# Altium integrated library Capacitor - Aluminium TH.IntLib: 4591 symbols (part 49 of 68)
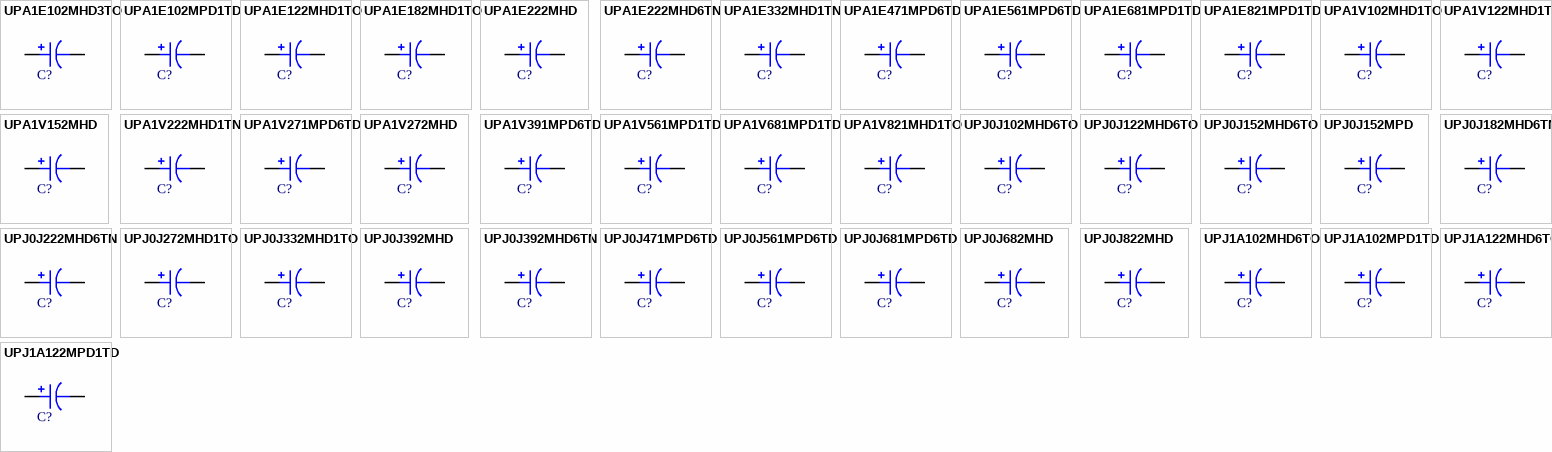
[diagram p162: symbols UPA1E102MHD3TO to UPJ1A122MPD1TD]

## UPJ0J152MHD6TO
designator C?, comment 1500uF  (value not drawn)
CAP ALUM 1500UF 20% 6.3V RADIAL; Part Number: UPJ0J152MHD6TO; Manufacturer: Nichicon; TemperatureRange: -55C ~ 105C; Type: Polar; Ripple Current: 915mA @ 120Hz; Impedance: 100 mOhm; Value: 1500uF; PartId: 22750; Supplier 1: Digi-Key; Supplier Part Number 1: 493-4973-1-ND; ComponentLink1Description: Datasheet; ComponentLink1URL: http://nichicon-us.com/english/products/pdfs/e-upj.pdf; ComponentLink2Description: Digi-Key Listing; ComponentLink2URL: https://www.digikey.com/product-detail/en/nichicon/UPJ0J152MHD6TO/493-4973-1-ND/3129310; Tolerance: 20%; Voltage: 6.3V; Price: 0; Device Package: Radial, Can, 12.5mm
footprint CAP AL TH D12.5 L5 H16.5
pins: 1, 2

## UPJ0J152MPD
designator C?, comment 1500uF  (value not drawn)
CAP ALUM 1500UF 20% 6.3V RADIAL; Part Number: UPJ0J152MPD; Manufacturer: Nichicon; TemperatureRange: -55C ~ 105C; Type: Polar; Ripple Current: 1.09A @ 120Hz; Impedance: 84 mOhm; Value: 1500uF; PartId: 26059; Supplier 1: Digi-Key; Supplier Part Number 1: 493-14368-ND; ComponentLink1Description: Datasheet; ComponentLink1URL: http://nichicon-us.com/english/products/pdfs/e-upj.pdf; ComponentLink2Description: Digi-Key Listing; ComponentLink2URL: https://www.digikey.com/product-detail/en/nichicon/UPJ0J152MPD/493-14368-ND/2599000; Tolerance: 20%; Voltage: 6.3V; Price: 0.67; Device Package: Radial, Can, 10mm
footprint CAP AL TH D10 L5 H30
pins: 1, 2

## UPJ0J182MHD6TN
designator C?, comment 1800uF  (value not drawn)
CAP ALUM 1800UF 20% 6.3V RADIAL; Part Number: UPJ0J182MHD6TN; Manufacturer: Nichicon; TemperatureRange: -55C ~ 105C; Type: Polar; Ripple Current: 1.14A @ 120Hz; Impedance: 84 mOhm; Value: 1800uF; PartId: 26230; Supplier 1: Digi-Key; Supplier Part Number 1: 493-4974-3-ND; ComponentLink1Description: Datasheet; ComponentLink1URL: http://nichicon-us.com/english/products/pdfs/e-upj.pdf; ComponentLink2Description: Digi-Key Listing; ComponentLink2URL: https://www.digikey.com/product-detail/en/nichicon/UPJ0J182MHD6TN/493-4974-3-ND/3129979; Tolerance: 20%; Voltage: 6.3V; Price: 0.3876; Device Package: Radial, Can, 16mm
footprint CAP AL TH D16 L7.5 H16.5
pins: 1, 2

## UPJ0J222MHD6TN
designator C?, comment 2200uF  (value not drawn)
CAP ALUM 2200UF 20% 6.3V RADIAL; Part Number: UPJ0J222MHD6TN; Manufacturer: Nichicon; TemperatureRange: -55C ~ 105C; Type: Polar; Ripple Current: 1.2A @ 120Hz; Impedance: 78 mOhm; Value: 2200uF; PartId: 26234; Supplier 1: Digi-Key; Supplier Part Number 1: 493-4975-3-ND; ComponentLink1Description: Datasheet; ComponentLink1URL: http://nichicon-us.com/english/products/pdfs/e-upj.pdf; ComponentLink2Description: Digi-Key Listing; ComponentLink2URL: https://www.digikey.com/product-detail/en/nichicon/UPJ0J222MHD6TN/493-4975-3-ND/3129980; Tolerance: 20%; Voltage: 6.3V; Price: 0.4095; Device Package: Radial, Can, 16mm
footprint CAP AL TH D16 L7.5 H16.5
pins: 1, 2

## UPJ0J272MHD1TO
designator C?, comment 2700uF  (value not drawn)
CAP ALUM 2700UF 20% 6.3V RADIAL; Part Number: UPJ0J272MHD1TO; Manufacturer: Nichicon; TemperatureRange: -55C ~ 105C; Type: Polar; Ripple Current: 1.43A @ 120Hz; Impedance: 51 mOhm; Value: 2700uF; PartId: 23623; Supplier 1: Digi-Key; Supplier Part Number 1: 493-4976-3-ND; ComponentLink1Description: Datasheet; ComponentLink1URL: http://nichicon-us.com/english/products/pdfs/e-upj.pdf; ComponentLink2Description: Digi-Key Listing; ComponentLink2URL: https://www.digikey.com/product-detail/en/nichicon/UPJ0J272MHD1TO/493-4976-3-ND/3129981; Tolerance: 20%; Voltage: 6.3V; Price: 0.3389; Device Package: Radial, Can, 12.5mm
footprint CAP AL TH D12.5 L5 H26.5
pins: 1, 2

## UPJ0J332MHD1TO
designator C?, comment 3300uF  (value not drawn)
CAP ALUM 3300UF 20% 6.3V RADIAL; Part Number: UPJ0J332MHD1TO; Manufacturer: Nichicon; TemperatureRange: -55C ~ 105C; Type: Polar; Ripple Current: 1.53A @ 120Hz; Impedance: 45 mOhm; Value: 3300uF; PartId: 23942; Supplier 1: Digi-Key; Supplier Part Number 1: 493-12101-1-ND; ComponentLink1Description: Datasheet; ComponentLink1URL: http://nichicon-us.com/english/products/pdfs/e-upj.pdf; ComponentLink2Description: Digi-Key Listing; ComponentLink2URL: https://www.digikey.com/product-detail/en/nichicon/UPJ0J332MHD1TO/493-12101-1-ND/4319400; Tolerance: 20%; Voltage: 6.3V; Price: 0.97; Device Package: Radial, Can, 12.5mm
footprint CAP AL TH D12.5 L5 H27
pins: 1, 2

## UPJ0J392MHD
designator C?, comment 3900uF  (value not drawn)
CAP ALUM 3900UF 20% 6.3V RADIAL; Part Number: UPJ0J392MHD; Manufacturer: Nichicon; TemperatureRange: -55C ~ 105C; Type: Polar; Ripple Current: 1.71A @ 120Hz; Impedance: 37 mOhm; Value: 3900uF; PartId: 24202; Supplier 1: Digi-Key; Supplier Part Number 1: 493-5514-ND; ComponentLink1Description: Datasheet; ComponentLink1URL: http://nichicon-us.com/english/products/pdfs/e-upj.pdf; ComponentLink2Description: Digi-Key Listing; ComponentLink2URL: https://www.digikey.com/product-detail/en/nichicon/UPJ0J392MHD/493-5514-ND/2599015; Tolerance: 20%; Voltage: 6.3V; Price: 0.89; Device Package: Radial, Can, 12.5mm
footprint CAP AL TH D12.5 L5 H35.5
pins: 1, 2

## UPJ0J392MHD6TN
designator C?, comment 3900uF  (value not drawn)
CAP ALUM 3900UF 20% 6.3V RADIAL; Part Number: UPJ0J392MHD6TN; Manufacturer: Nichicon; TemperatureRange: -55C ~ 105C; Type: Polar; Ripple Current: 1.54A @ 120Hz; Impedance: 56 mOhm; Value: 3900uF; PartId: 26357; Supplier 1: Digi-Key; Supplier Part Number 1: 493-4979-3-ND; ComponentLink1Description: Datasheet; ComponentLink1URL: http://nichicon-us.com/english/products/pdfs/e-upj.pdf; ComponentLink2Description: Digi-Key Listing; ComponentLink2URL: https://www.digikey.com/product-detail/en/nichicon/UPJ0J392MHD6TN/493-4979-3-ND/3129984; Tolerance: 20%; Voltage: 6.3V; Price: 0.5151; Device Package: Radial, Can, 16mm
footprint CAP AL TH D16 L7.5 H22
pins: 1, 2

## UPJ0J471MPD6TD
designator C?, comment 470uF  (value not drawn)
CAP ALUM 470UF 20% 6.3V RADIAL; Part Number: UPJ0J471MPD6TD; Manufacturer: Nichicon; TemperatureRange: -55C ~ 105C; Type: Polar; Ripple Current: 455mA @ 120Hz; Impedance: 230 mOhm; Value: 470uF; PartId: 24503; Supplier 1: Digi-Key; Supplier Part Number 1: 493-4980-3-ND; ComponentLink1Description: Datasheet; ComponentLink1URL: http://nichicon-us.com/english/products/pdfs/e-upj.pdf; ComponentLink2Description: Digi-Key Listing; ComponentLink2URL: https://www.digikey.com/product-detail/en/nichicon/UPJ0J471MPD6TD/493-4980-3-ND/3129985; Tolerance: 20%; Voltage: 6.3V; Price: 0.1149; Device Package: Radial, Can, 10mm
footprint CAP AL TH D10 L5 H14.5
pins: 1, 2

## UPJ0J561MPD6TD
designator C?, comment 560uF  (value not drawn)
CAP ALUM 560UF 20% 6.3V RADIAL; Part Number: UPJ0J561MPD6TD; Manufacturer: Nichicon; TemperatureRange: -55C ~ 105C; Type: Polar; Ripple Current: 485mA @ 120Hz; Impedance: 210 mOhm; Value: 560uF; PartId: 24791; Supplier 1: Digi-Key; Supplier Part Number 1: 493-4983-1-ND; ComponentLink1Description: Datasheet; ComponentLink1URL: http://nichicon-us.com/english/products/pdfs/e-upj.pdf; ComponentLink2Description: Digi-Key Listing; ComponentLink2URL: https://www.digikey.com/product-detail/en/nichicon/UPJ0J561MPD6TD/493-4983-1-ND/3129320; Tolerance: 20%; Voltage: 6.3V; Price: 0.44; Device Package: Radial, Can, 10mm
footprint CAP AL TH D10 L5 H14.5
pins: 1, 2

## UPJ0J681MPD6TD
designator C?, comment 680uF  (value not drawn)
CAP ALUM 680UF 20% 6.3V RADIAL; Part Number: UPJ0J681MPD6TD; Manufacturer: Nichicon; TemperatureRange: -55C ~ 105C; Type: Polar; Ripple Current: 580mA @ 120Hz; Impedance: 180 mOhm; Value: 680uF; PartId: 24990; Supplier 1: Digi-Key; Supplier Part Number 1: 493-4986-3-ND; ComponentLink1Description: Datasheet; ComponentLink1URL: http://nichicon-us.com/english/products/pdfs/e-upj.pdf; ComponentLink2Description: Digi-Key Listing; ComponentLink2URL: https://www.digikey.com/product-detail/en/nichicon/UPJ0J681MPD6TD/493-4986-3-ND/3129991; Tolerance: 20%; Voltage: 6.3V; Price: 0.1251; Device Package: Radial, Can, 10mm
footprint CAP AL TH D10 L5 H17.5
pins: 1, 2

## UPJ0J682MHD
designator C?, comment 6800uF  (value not drawn)
CAP ALUM 6800UF 20% 6.3V RADIAL; Part Number: UPJ0J682MHD; Manufacturer: Nichicon; TemperatureRange: -55C ~ 105C; Type: Polar; Ripple Current: 2.13A @ 120Hz; Impedance: 29 mOhm; Value: 6800uF; PartId: 26986; Supplier 1: Digi-Key; Supplier Part Number 1: 493-5516-ND; ComponentLink1Description: Datasheet; ComponentLink1URL: http://nichicon-us.com/english/products/pdfs/e-upj.pdf; ComponentLink2Description: Digi-Key Listing; ComponentLink2URL: https://www.digikey.com/product-detail/en/nichicon/UPJ0J682MHD/493-5516-ND/2599027; Tolerance: 20%; Voltage: 6.3V; Price: 1.25; Device Package: Radial, Can, 16mm
footprint CAP AL TH D16 L7.5 H33.5
pins: 1, 2

## UPJ0J822MHD
designator C?, comment 8200uF  (value not drawn)
CAP ALUM 8200UF 20% 6.3V RADIAL; Part Number: UPJ0J822MHD; Manufacturer: Nichicon; TemperatureRange: -55C ~ 105C; Type: Polar; Ripple Current: 2.29A @ 120Hz; Impedance: 27 mOhm; Value: 8200uF; PartId: 27316; Supplier 1: Digi-Key; Supplier Part Number 1: 493-5517-ND; ComponentLink1Description: Datasheet; ComponentLink1URL: http://nichicon-us.com/english/products/pdfs/e-upj.pdf; ComponentLink2Description: Digi-Key Listing; ComponentLink2URL: https://www.digikey.com/product-detail/en/nichicon/UPJ0J822MHD/493-5517-ND/2599031; Tolerance: 20%; Voltage: 6.3V; Price: 1.47; Device Package: Radial, Can, 16mm
footprint CAP AL TH D16 L7.5 H37
pins: 1, 2

## UPJ1A102MHD6TO
designator C?, comment 1000uF  (value not drawn)
CAP ALUM 1000UF 20% 10V RADIAL; Part Number: UPJ1A102MHD6TO; Manufacturer: Nichicon; TemperatureRange: -55C ~ 105C; Type: Polar; Ripple Current: 895mA @ 120Hz; Impedance: 100 mOhm; Value: 1000uF; PartId: 22742; Supplier 1: Digi-Key; Supplier Part Number 1: 493-4988-1-ND; ComponentLink1Description: Datasheet; ComponentLink1URL: http://nichicon-us.com/english/products/pdfs/e-upj.pdf; ComponentLink2Description: Digi-Key Listing; ComponentLink2URL: https://www.digikey.com/product-detail/en/nichicon/UPJ1A102MHD6TO/493-4988-1-ND/3129325; Tolerance: 20%; Voltage: 10V; Price: 0; Device Package: Radial, Can, 12.5mm
footprint CAP AL TH D12.5 L5 H16.5
pins: 1, 2

## UPJ1A102MPD1TD
designator C?, comment 1000uF  (value not drawn)
CAP ALUM 1000UF 20% 10V RADIAL; Part Number: UPJ1A102MPD1TD; Manufacturer: Nichicon; TemperatureRange: -55C ~ 105C; Type: Polar; Ripple Current: 915mA @ 120Hz; Impedance: 96 mOhm; Value: 1000uF; PartId: 25731; Supplier 1: Digi-Key; Supplier Part Number 1: 493-11861-3-ND; ComponentLink1Description: Datasheet; ComponentLink1URL: http://nichicon-us.com/english/products/pdfs/e-upj.pdf; ComponentLink2Description: Digi-Key Listing; ComponentLink2URL: https://www.digikey.com/product-detail/en/nichicon/UPJ1A102MPD1TD/493-11861-3-ND/4321004; Tolerance: 20%; Voltage: 10V; Price: 0.1718; Device Package: Radial, Can, 10mm
footprint CAP AL TH D10 L5 H22
pins: 1, 2

## UPJ1A122MHD6TO
designator C?, comment 1200uF  (value not drawn)
CAP ALUM 1200UF 20% 10V RADIAL; Part Number: UPJ1A122MHD6TO; Manufacturer: Nichicon; TemperatureRange: -55C ~ 105C; Type: Polar; Ripple Current: 930mA @ 120Hz; Impedance: 96 mOhm; Value: 1200uF; PartId: 22752; Supplier 1: Digi-Key; Supplier Part Number 1: 493-4990-1-ND; ComponentLink1Description: Datasheet; ComponentLink1URL: http://nichicon-us.com/english/products/pdfs/e-upj.pdf; ComponentLink2Description: Digi-Key Listing; ComponentLink2URL: https://www.digikey.com/product-detail/en/nichicon/UPJ1A122MHD6TO/493-4990-1-ND/3129327; Tolerance: 20%; Voltage: 10V; Price: 0; Device Package: Radial, Can, 12.5mm
footprint CAP AL TH D12.5 L5 H16.5
pins: 1, 2

## UPJ1A122MPD1TD
designator C?, comment 1200uF  (value not drawn)
CAP ALUM 1200UF 20% 10V RADIAL; Part Number: UPJ1A122MPD1TD; Manufacturer: Nichicon; TemperatureRange: -55C ~ 105C; Type: Polar; Ripple Current: 1.12A @ 120Hz; Impedance: 78 mOhm; Value: 1200uF; PartId: 26006; Supplier 1: Digi-Key; Supplier Part Number 1: 493-4991-3-ND; ComponentLink1Description: Datasheet; ComponentLink1URL: http://nichicon-us.com/english/products/pdfs/e-upj.pdf; ComponentLink2Description: Digi-Key Listing; ComponentLink2URL: https://www.digikey.com/product-detail/en/nichicon/UPJ1A122MPD1TD/493-4991-3-ND/3129996; Tolerance: 20%; Voltage: 10V; Price: 0.2528; Device Package: Radial, Can, 10mm
footprint CAP AL TH D10 L5 H30
pins: 1, 2

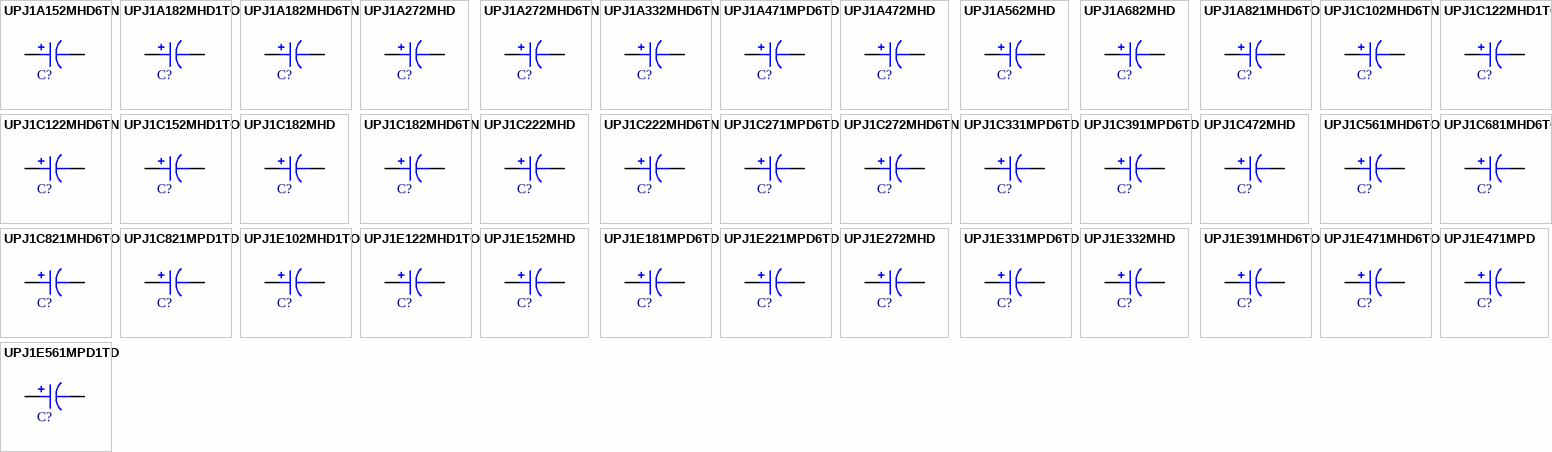
[diagram p81: symbols UPJ1A152MHD6TN to UPJ1E561MPD1TD]

## UPJ1A152MHD6TN
designator C?, comment 1500uF  (value not drawn)
CAP ALUM 1500UF 20% 10V RADIAL; Part Number: UPJ1A152MHD6TN; Manufacturer: Nichicon; TemperatureRange: -55C ~ 105C; Type: Polar; Ripple Current: 1.19A @ 120Hz; Impedance: 78 mOhm; Value: 1500uF; PartId: 22760; Supplier 1: Digi-Key; Supplier Part Number 1: 493-12073-1-ND; ComponentLink1Description: Datasheet; ComponentLink1URL: http://nichicon-us.com/english/products/pdfs/e-upj.pdf; ComponentLink2Description: Digi-Key Listing; ComponentLink2URL: https://www.digikey.com/product-detail/en/nichicon/UPJ1A152MHD6TN/493-12073-1-ND/4319407; Tolerance: 20%; Voltage: 10V; Price: 0; Device Package: Radial, Can, 12.5mm
footprint CAP AL TH D12.5 L5 H16.5
pins: 1, 2

## UPJ1A182MHD1TO
designator C?, comment 1800uF  (value not drawn)
CAP ALUM 1800UF 20% 10V RADIAL; Part Number: UPJ1A182MHD1TO; Manufacturer: Nichicon; TemperatureRange: -55C ~ 105C; Type: Polar; Ripple Current: 1.32A @ 120Hz; Impedance: 57 mOhm; Value: 1800uF; PartId: 22952; Supplier 1: Digi-Key; Supplier Part Number 1: 493-4994-1-ND; ComponentLink1Description: Datasheet; ComponentLink1URL: http://nichicon-us.com/english/products/pdfs/e-upj.pdf; ComponentLink2Description: Digi-Key Listing; ComponentLink2URL: https://www.digikey.com/product-detail/en/nichicon/UPJ1A182MHD1TO/493-4994-1-ND/3129331; Tolerance: 20%; Voltage: 10V; Price: 0; Device Package: Radial, Can, 12.5mm
footprint CAP AL TH D12.5 L5 H21.5
pins: 1, 2

## UPJ1A182MHD6TN
designator C?, comment 1800uF  (value not drawn)
CAP ALUM 1800UF 20% 10V RADIAL; Part Number: UPJ1A182MHD6TN; Manufacturer: Nichicon; TemperatureRange: -55C ~ 105C; Type: Polar; Ripple Current: 1.27A @ 120Hz; Impedance: 72 mOhm; Value: 1800uF; PartId: 26225; Supplier 1: Digi-Key; Supplier Part Number 1: 493-4995-3-ND; ComponentLink1Description: Datasheet; ComponentLink1URL: http://nichicon-us.com/english/products/pdfs/e-upj.pdf; ComponentLink2Description: Digi-Key Listing; ComponentLink2URL: https://www.digikey.com/product-detail/en/nichicon/UPJ1A182MHD6TN/493-4995-3-ND/3130000; Tolerance: 20%; Voltage: 10V; Price: 0.2877; Device Package: Radial, Can, 16mm
footprint CAP AL TH D16 L7.5 H16.5
pins: 1, 2

## UPJ1A272MHD
designator C?, comment 2700uF  (value not drawn)
CAP ALUM 2700UF 20% 10V RADIAL; Part Number: UPJ1A272MHD; Manufacturer: Nichicon; TemperatureRange: -55C ~ 105C; Type: Polar; Ripple Current: 1.74A @ 120Hz; Impedance: 36 mOhm; Value: 2700uF; PartId: 24209; Supplier 1: Digi-Key; Supplier Part Number 1: 493-5519-ND; ComponentLink1Description: Datasheet; ComponentLink1URL: http://nichicon-us.com/english/products/pdfs/e-upj.pdf; ComponentLink2Description: Digi-Key Listing; ComponentLink2URL: https://www.digikey.com/product-detail/en/nichicon/UPJ1A272MHD/493-5519-ND/2599050; Tolerance: 20%; Voltage: 10V; Price: 0.92; Device Package: Radial, Can, 12.5mm
footprint CAP AL TH D12.5 L5 H35.5
pins: 1, 2

## UPJ1A272MHD6TN
designator C?, comment 2700uF  (value not drawn)
CAP ALUM 2700UF 20% 10V RADIAL; Part Number: UPJ1A272MHD6TN; Manufacturer: Nichicon; TemperatureRange: -55C ~ 105C; Type: Polar; Ripple Current: 1.56A @ 120Hz; Impedance: 51 mOhm; Value: 2700uF; PartId: 26349; Supplier 1: Digi-Key; Supplier Part Number 1: 493-4999-3-ND; ComponentLink1Description: Datasheet; ComponentLink1URL: http://nichicon-us.com/english/products/pdfs/e-upj.pdf; ComponentLink2Description: Digi-Key Listing; ComponentLink2URL: https://www.digikey.com/product-detail/en/nichicon/UPJ1A272MHD6TN/493-4999-3-ND/3130004; Tolerance: 20%; Voltage: 10V; Price: 0.4519; Device Package: Radial, Can, 16mm
footprint CAP AL TH D16 L7.5 H22
pins: 1, 2

## UPJ1A332MHD6TN
designator C?, comment 3300uF  (value not drawn)
CAP ALUM 3300UF 20% 10V RADIAL; Part Number: UPJ1A332MHD6TN; Manufacturer: Nichicon; TemperatureRange: -55C ~ 105C; Type: Polar; Ripple Current: 1.66A @ 120Hz; Impedance: 45 mOhm; Value: 3300uF; PartId: 26358; Supplier 1: Digi-Key; Supplier Part Number 1: 493-12179-3-ND; ComponentLink1Description: Datasheet; ComponentLink1URL: http://nichicon-us.com/english/products/pdfs/e-upj.pdf; ComponentLink2Description: Digi-Key Listing; ComponentLink2URL: https://www.digikey.com/product-detail/en/nichicon/UPJ1A332MHD6TN/493-12179-3-ND/4321322; Tolerance: 20%; Voltage: 10V; Price: 0.5151; Device Package: Radial, Can, 16mm
footprint CAP AL TH D16 L7.5 H22
pins: 1, 2

## UPJ1A471MPD6TD
designator C?, comment 470uF  (value not drawn)
CAP ALUM 470UF 20% 10V RADIAL; Part Number: UPJ1A471MPD6TD; Manufacturer: Nichicon; TemperatureRange: -55C ~ 105C; Type: Polar; Ripple Current: 475mA @ 120Hz; Impedance: 210 mOhm; Value: 470uF; PartId: 24569; Supplier 1: Digi-Key; Supplier Part Number 1: 493-11761-3-ND; ComponentLink1Description: Datasheet; ComponentLink1URL: http://nichicon-us.com/english/products/pdfs/e-upj.pdf; ComponentLink2Description: Digi-Key Listing; ComponentLink2URL: https://www.digikey.com/product-detail/en/nichicon/UPJ1A471MPD6TD/493-11761-3-ND/4320904; Tolerance: 20%; Voltage: 10V; Price: 0.155; Device Package: Radial, Can, 10mm
footprint CAP AL TH D10 L5 H14.5
pins: 1, 2

## UPJ1A472MHD
designator C?, comment 4700uF  (value not drawn)
CAP ALUM 4700UF 20% 10V RADIAL; Part Number: UPJ1A472MHD; Manufacturer: Nichicon; TemperatureRange: -55C ~ 105C; Type: Polar; Ripple Current: 2.17A @ 120Hz; Impedance: 28 mOhm; Value: 4700uF; PartId: 26984; Supplier 1: Digi-Key; Supplier Part Number 1: 493-5522-ND; ComponentLink1Description: Datasheet; ComponentLink1URL: http://nichicon-us.com/english/products/pdfs/e-upj.pdf; ComponentLink2Description: Digi-Key Listing; ComponentLink2URL: https://www.digikey.com/product-detail/en/nichicon/UPJ1A472MHD/493-5522-ND/2599061; Tolerance: 20%; Voltage: 10V; Price: 1.22; Device Package: Radial, Can, 16mm
footprint CAP AL TH D16 L7.5 H33.5
pins: 1, 2

## UPJ1A562MHD
designator C?, comment 5600uF  (value not drawn)
CAP ALUM 5600UF 20% 10V RADIAL; Part Number: UPJ1A562MHD; Manufacturer: Nichicon; TemperatureRange: -55C ~ 105C; Type: Polar; Ripple Current: 2.34A @ 120Hz; Impedance: 26 mOhm; Value: 5600uF; PartId: 27327; Supplier 1: Digi-Key; Supplier Part Number 1: 493-5523-ND; ComponentLink1Description: Datasheet; ComponentLink1URL: http://nichicon-us.com/english/products/pdfs/e-upj.pdf; ComponentLink2Description: Digi-Key Listing; ComponentLink2URL: https://www.digikey.com/product-detail/en/nichicon/UPJ1A562MHD/493-5523-ND/2599065; Tolerance: 20%; Voltage: 10V; Price: 1.57; Device Package: Radial, Can, 16mm
footprint CAP AL TH D16 L7.5 H37
pins: 1, 2

## UPJ1A682MHD
designator C?, comment 6800uF  (value not drawn)
CAP ALUM 6800UF 20% 10V RADIAL; Part Number: UPJ1A682MHD; Manufacturer: Nichicon; TemperatureRange: -55C ~ 105C; Type: Polar; Ripple Current: 2.41A @ 120Hz; Impedance: 24 mOhm; Value: 6800uF; PartId: 27352; Supplier 1: Digi-Key; Supplier Part Number 1: 493-5524-ND; ComponentLink1Description: Datasheet; ComponentLink1URL: http://nichicon-us.com/english/products/pdfs/e-upj.pdf; ComponentLink2Description: Digi-Key Listing; ComponentLink2URL: https://www.digikey.com/product-detail/en/nichicon/UPJ1A682MHD/493-5524-ND/2599070; Tolerance: 20%; Voltage: 10V; Price: 1.74; Device Package: Radial, Can, 16mm
footprint CAP AL TH D16 L7.5 H37
pins: 1, 2

## UPJ1A821MHD6TO
designator C?, comment 820uF  (value not drawn)
CAP ALUM 820UF 20% 10V RADIAL; Part Number: UPJ1A821MHD6TO; Manufacturer: Nichicon; TemperatureRange: -55C ~ 105C; Type: Polar; Ripple Current: 780mA @ 120Hz; Impedance: 130 mOhm; Value: 820uF; PartId: 22733; Supplier 1: Digi-Key; Supplier Part Number 1: 493-5008-1-ND; ComponentLink1Description: Datasheet; ComponentLink1URL: http://nichicon-us.com/english/products/pdfs/e-upj.pdf; ComponentLink2Description: Digi-Key Listing; ComponentLink2URL: https://www.digikey.com/product-detail/en/nichicon/UPJ1A821MHD6TO/493-5008-1-ND/3129345; Tolerance: 20%; Voltage: 10V; Price: 0; Device Package: Radial, Can, 12.5mm
footprint CAP AL TH D12.5 L5 H16.5
pins: 1, 2

## UPJ1C102MHD6TN
designator C?, comment 1000uF  (value not drawn)
CAP ALUM 1000UF 20% 16V RADIAL; Part Number: UPJ1C102MHD6TN; Manufacturer: Nichicon; TemperatureRange: -55C ~ 105C; Type: Polar; Ripple Current: 1.09A @ 120Hz; Impedance: 84 mOhm; Value: 1000uF; PartId: 26237; Supplier 1: Digi-Key; Supplier Part Number 1: 493-5011-3-ND; ComponentLink1Description: Datasheet; ComponentLink1URL: http://nichicon-us.com/english/products/pdfs/e-upj.pdf; ComponentLink2Description: Digi-Key Listing; ComponentLink2URL: https://www.digikey.com/product-detail/en/nichicon/UPJ1C102MHD6TN/493-5011-3-ND/3130016; Tolerance: 20%; Voltage: 16V; Price: 0.4416; Device Package: Radial, Can, 16mm
footprint CAP AL TH D16 L7.5 H16.5
pins: 1, 2

## UPJ1C122MHD1TO
designator C?, comment 1200uF  (value not drawn)
CAP ALUM 1200UF 20% 16V RADIAL; Part Number: UPJ1C122MHD1TO; Manufacturer: Nichicon; TemperatureRange: -55C ~ 105C; Type: Polar; Ripple Current: 1.25A @ 120Hz; Impedance: 60 mOhm; Value: 1200uF; PartId: 23140; Supplier 1: Digi-Key; Supplier Part Number 1: 493-12001-3-ND; ComponentLink1Description: Datasheet; ComponentLink1URL: http://nichicon-us.com/english/products/pdfs/e-upj.pdf; ComponentLink2Description: Digi-Key Listing; ComponentLink2URL: https://www.digikey.com/product-detail/en/nichicon/UPJ1C122MHD1TO/493-12001-3-ND/4321144; Tolerance: 20%; Voltage: 16V; Price: 0.2698; Device Package: Radial, Can, 12.5mm
footprint CAP AL TH D12.5 L5 H22
pins: 1, 2

## UPJ1C122MHD6TN
designator C?, comment 1200uF  (value not drawn)
CAP ALUM 1200UF 20% 16V RADIAL; Part Number: UPJ1C122MHD6TN; Manufacturer: Nichicon; TemperatureRange: -55C ~ 105C; Type: Polar; Ripple Current: 1.22A @ 120Hz; Impedance: 72 mOhm; Value: 1200uF; PartId: 26245; Supplier 1: Digi-Key; Supplier Part Number 1: 493-5013-3-ND; ComponentLink1Description: Datasheet; ComponentLink1URL: http://nichicon-us.com/english/products/pdfs/e-upj.pdf; ComponentLink2Description: Digi-Key Listing; ComponentLink2URL: https://www.digikey.com/product-detail/en/nichicon/UPJ1C122MHD6TN/493-5013-3-ND/3130018; Tolerance: 20%; Voltage: 16V; Price: 0.5012; Device Package: Radial, Can, 16mm
footprint CAP AL TH D16 L7.5 H16.5
pins: 1, 2

## UPJ1C152MHD1TO
designator C?, comment 1500uF  (value not drawn)
CAP ALUM 1500UF 20% 16V RADIAL; Part Number: UPJ1C152MHD1TO; Manufacturer: Nichicon; TemperatureRange: -55C ~ 105C; Type: Polar; Ripple Current: 1.49A @ 120Hz; Impedance: 48 mOhm; Value: 1500uF; PartId: 23627; Supplier 1: Digi-Key; Supplier Part Number 1: 493-5015-3-ND; ComponentLink1Description: Datasheet; ComponentLink1URL: http://nichicon-us.com/english/products/pdfs/e-upj.pdf; ComponentLink2Description: Digi-Key Listing; ComponentLink2URL: https://www.digikey.com/product-detail/en/nichicon/UPJ1C152MHD1TO/493-5015-3-ND/3130020; Tolerance: 20%; Voltage: 16V; Price: 0.3506; Device Package: Radial, Can, 12.5mm
footprint CAP AL TH D12.5 L5 H26.5
pins: 1, 2

## UPJ1C182MHD
designator C?, comment 1800uF  (value not drawn)
CAP ALUM 1800UF 20% 16V RADIAL; Part Number: UPJ1C182MHD; Manufacturer: Nichicon; TemperatureRange: -55C ~ 105C; Type: Polar; Ripple Current: 1.69A; Impedance: 39 mOhm; Value: 1800uF; PartId: 24205; Supplier 1: Digi-Key; Supplier Part Number 1: 493-11073-ND; ComponentLink1Description: Datasheet; ComponentLink1URL: http://nichicon-us.com/english/products/pdfs/e-upj.pdf; ComponentLink2Description: Digi-Key Listing; ComponentLink2URL: https://www.digikey.com/product-detail/en/nichicon/UPJ1C182MHD/493-11073-ND/2599087; Tolerance: 20%; Voltage: 16V; Price: 0.9; Device Package: Radial, Can, 12.5mm
footprint CAP AL TH D12.5 L5 H35.5
pins: 1, 2

## UPJ1C182MHD6TN
designator C?, comment 1800uF  (value not drawn)
CAP ALUM 1800UF 20% 16V RADIAL; Part Number: UPJ1C182MHD6TN; Manufacturer: Nichicon; TemperatureRange: -55C ~ 105C; Type: Polar; Ripple Current: 1.53A @ 120Hz; Impedance: 54 mOhm; Value: 1800uF; PartId: 26350; Supplier 1: Digi-Key; Supplier Part Number 1: 493-5018-3-ND; ComponentLink1Description: Datasheet; ComponentLink1URL: http://nichicon-us.com/english/products/pdfs/e-upj.pdf; ComponentLink2Description: Digi-Key Listing; ComponentLink2URL: https://www.digikey.com/product-detail/en/nichicon/UPJ1C182MHD6TN/493-5018-3-ND/3130023; Tolerance: 20%; Voltage: 16V; Price: 0.4655; Device Package: Radial, Can, 16mm
footprint CAP AL TH D16 L7.5 H22
pins: 1, 2

## UPJ1C222MHD
designator C?, comment 2200uF  (value not drawn)
CAP ALUM 2200UF 20% 16V RADIAL; Part Number: UPJ1C222MHD; Manufacturer: Nichicon; TemperatureRange: -55C ~ 105C; Type: Polar; Ripple Current: 1.8A; Impedance: 34 mOhm; Value: 2200uF; PartId: 24255; Supplier 1: Digi-Key; Supplier Part Number 1: 493-11074-ND; ComponentLink1Description: Datasheet; ComponentLink1URL: http://nichicon-us.com/english/products/pdfs/e-upj.pdf; ComponentLink2Description: Digi-Key Listing; ComponentLink2URL: https://www.digikey.com/product-detail/en/nichicon/UPJ1C222MHD/493-11074-ND/2599090; Tolerance: 20%; Voltage: 16V; Price: 1.03; Device Package: Radial, Can, 12.5mm
footprint CAP AL TH D12.5 L5 H35.5
pins: 1, 2

## UPJ1C222MHD6TN
designator C?, comment 2200uF  (value not drawn)
CAP ALUM 2200UF 20% 16V RADIAL; Part Number: UPJ1C222MHD6TN; Manufacturer: Nichicon; TemperatureRange: -55C ~ 105C; Type: Polar; Ripple Current: 1.8A @ 120Hz; Impedance: 48 mOhm; Value: 2200uF; PartId: 26356; Supplier 1: Digi-Key; Supplier Part Number 1: 493-12180-3-ND; ComponentLink1Description: Datasheet; ComponentLink1URL: http://nichicon-us.com/english/products/pdfs/e-upj.pdf; ComponentLink2Description: Digi-Key Listing; ComponentLink2URL: https://www.digikey.com/product-detail/en/nichicon/UPJ1C222MHD6TN/493-12180-3-ND/4321323; Tolerance: 20%; Voltage: 16V; Price: 0.5151; Device Package: Radial, Can, 16mm
footprint CAP AL TH D16 L7.5 H22
pins: 1, 2

## UPJ1C271MPD6TD
designator C?, comment 270uF  (value not drawn)
CAP ALUM 270UF 20% 16V RADIAL; Part Number: UPJ1C271MPD6TD; Manufacturer: Nichicon; TemperatureRange: -55C ~ 105C; Type: Polar; Ripple Current: 430mA @ 120Hz; Impedance: 220 mOhm; Value: 270uF; PartId: 24509; Supplier 1: Digi-Key; Supplier Part Number 1: 493-5020-3-ND; ComponentLink1Description: Datasheet; ComponentLink1URL: http://nichicon-us.com/english/products/pdfs/e-upj.pdf; ComponentLink2Description: Digi-Key Listing; ComponentLink2URL: https://www.digikey.com/product-detail/en/nichicon/UPJ1C271MPD6TD/493-5020-3-ND/3130025; Tolerance: 20%; Voltage: 16V; Price: 0.1244; Device Package: Radial, Can, 10mm
footprint CAP AL TH D10 L5 H14.5
pins: 1, 2

## UPJ1C272MHD6TN
designator C?, comment 2700uF  (value not drawn)
CAP ALUM 2700UF 20% 16V RADIAL; Part Number: UPJ1C272MHD6TN; Manufacturer: Nichicon; TemperatureRange: -55C ~ 105C; Type: Polar; Ripple Current: 1.8A @ 120Hz; Impedance: 40 mOhm; Value: 2700uF; PartId: 26513; Supplier 1: Digi-Key; Supplier Part Number 1: 493-5021-3-ND; ComponentLink1Description: Datasheet; ComponentLink1URL: http://nichicon-us.com/english/products/pdfs/e-upj.pdf; ComponentLink2Description: Digi-Key Listing; ComponentLink2URL: https://www.digikey.com/product-detail/en/nichicon/UPJ1C272MHD6TN/493-5021-3-ND/3130026; Tolerance: 20%; Voltage: 16V; Price: 0.5412; Device Package: Radial, Can, 16mm
footprint CAP AL TH D16 L7.5 H26.5
pins: 1, 2

## UPJ1C331MPD6TD
designator C?, comment 330uF  (value not drawn)
CAP ALUM 330UF 20% 16V RADIAL; Part Number: UPJ1C331MPD6TD; Manufacturer: Nichicon; TemperatureRange: -55C ~ 105C; Type: Polar; Ripple Current: 480mA @ 120Hz; Impedance: 180 mOhm; Value: 330uF; PartId: 24533; Supplier 1: Digi-Key; Supplier Part Number 1: 493-5023-3-ND; ComponentLink1Description: Datasheet; ComponentLink1URL: http://nichicon-us.com/english/products/pdfs/e-upj.pdf; ComponentLink2Description: Digi-Key Listing; ComponentLink2URL: https://www.digikey.com/product-detail/en/nichicon/UPJ1C331MPD6TD/493-5023-3-ND/3130028; Tolerance: 20%; Voltage: 16V; Price: 0.1444; Device Package: Radial, Can, 10mm
footprint CAP AL TH D10 L5 H14.5
pins: 1, 2

## UPJ1C391MPD6TD
designator C?, comment 390uF  (value not drawn)
CAP ALUM 390UF 20% 16V RADIAL; Part Number: UPJ1C391MPD6TD; Manufacturer: Nichicon; TemperatureRange: -55C ~ 105C; Type: Polar; Ripple Current: 570mA @ 120Hz; Impedance: 160 mOhm; Value: 390uF; PartId: 25009; Supplier 1: Digi-Key; Supplier Part Number 1: 493-5026-3-ND; ComponentLink1Description: Datasheet; ComponentLink1URL: http://nichicon-us.com/english/products/pdfs/e-upj.pdf; ComponentLink2Description: Digi-Key Listing; ComponentLink2URL: https://www.digikey.com/product-detail/en/nichicon/UPJ1C391MPD6TD/493-5026-3-ND/3130031; Tolerance: 20%; Voltage: 16V; Price: 0.155; Device Package: Radial, Can, 10mm
footprint CAP AL TH D10 L5 H17.5
pins: 1, 2

## UPJ1C472MHD
designator C?, comment 4700uF  (value not drawn)
CAP ALUM 4700UF 20% 16V RADIAL; Part Number: UPJ1C472MHD; Manufacturer: Nichicon; TemperatureRange: -55C ~ 105C; Type: Polar; Ripple Current: 2.41A @ 120Hz; Impedance: 25 mOhm; Value: 4700uF; PartId: 27325; Supplier 1: Digi-Key; Supplier Part Number 1: 493-5531-ND; ComponentLink1Description: Datasheet; ComponentLink1URL: http://nichicon-us.com/english/products/pdfs/e-upj.pdf; ComponentLink2Description: Digi-Key Listing; ComponentLink2URL: https://www.digikey.com/product-detail/en/nichicon/UPJ1C472MHD/493-5531-ND/2599107; Tolerance: 20%; Voltage: 16V; Price: 1.57; Device Package: Radial, Can, 16mm
footprint CAP AL TH D16 L7.5 H37
pins: 1, 2

## UPJ1C561MHD6TO
designator C?, comment 560uF  (value not drawn)
CAP ALUM 560UF 20% 16V RADIAL; Part Number: UPJ1C561MHD6TO; Manufacturer: Nichicon; TemperatureRange: -55C ~ 105C; Type: Polar; Ripple Current: 770mA @ 120Hz; Impedance: 130 mOhm; Value: 560uF; PartId: 22734; Supplier 1: Digi-Key; Supplier Part Number 1: 493-11983-1-ND; ComponentLink1Description: Datasheet; ComponentLink1URL: http://nichicon-us.com/english/products/pdfs/e-upj.pdf; ComponentLink2Description: Digi-Key Listing; ComponentLink2URL: https://www.digikey.com/product-detail/en/nichicon/UPJ1C561MHD6TO/493-11983-1-ND/4319422; Tolerance: 20%; Voltage: 16V; Price: 0; Device Package: Radial, Can, 12.5mm
footprint CAP AL TH D12.5 L5 H16.5
pins: 1, 2

## UPJ1C681MHD6TO
designator C?, comment 680uF  (value not drawn)
CAP ALUM 680UF 20% 16V RADIAL; Part Number: UPJ1C681MHD6TO; Manufacturer: Nichicon; TemperatureRange: -55C ~ 105C; Type: Polar; Ripple Current: 815mA @ 120Hz; Impedance: 110 mOhm; Value: 680uF; PartId: 22758; Supplier 1: Digi-Key; Supplier Part Number 1: 493-5030-1-ND; ComponentLink1Description: Datasheet; ComponentLink1URL: http://nichicon-us.com/english/products/pdfs/e-upj.pdf; ComponentLink2Description: Digi-Key Listing; ComponentLink2URL: https://www.digikey.com/product-detail/en/nichicon/UPJ1C681MHD6TO/493-5030-1-ND/3129367; Tolerance: 20%; Voltage: 16V; Price: 0; Device Package: Radial, Can, 12.5mm
footprint CAP AL TH D12.5 L5 H16.5
pins: 1, 2

## UPJ1C821MHD6TO
designator C?, comment 820uF  (value not drawn)
CAP ALUM 820UF 20% 16V RADIAL; Part Number: UPJ1C821MHD6TO; Manufacturer: Nichicon; TemperatureRange: -55C ~ 105C; Type: Polar; Ripple Current: 895mA @ 120Hz; Impedance: 96 mOhm; Value: 820uF; PartId: 22748; Supplier 1: Digi-Key; Supplier Part Number 1: 493-12042-1-ND; ComponentLink1Description: Datasheet; ComponentLink1URL: http://nichicon-us.com/english/products/pdfs/e-upj.pdf; ComponentLink2Description: Digi-Key Listing; ComponentLink2URL: https://www.digikey.com/product-detail/en/nichicon/UPJ1C821MHD6TO/493-12042-1-ND/4319424; Tolerance: 20%; Voltage: 16V; Price: 0; Device Package: Radial, Can, 12.5mm
footprint CAP AL TH D12.5 L5 H16.5
pins: 1, 2

## UPJ1C821MPD1TD
designator C?, comment 820uF  (value not drawn)
CAP ALUM 820UF 20% 16V RADIAL; Part Number: UPJ1C821MPD1TD; Manufacturer: Nichicon; TemperatureRange: -55C ~ 105C; Type: Polar; Ripple Current: 1.03A @ 120Hz; Impedance: 84 mOhm; Value: 820uF; PartId: 26005; Supplier 1: Digi-Key; Supplier Part Number 1: 493-5032-3-ND; ComponentLink1Description: Datasheet; ComponentLink1URL: http://nichicon-us.com/english/products/pdfs/e-upj.pdf; ComponentLink2Description: Digi-Key Listing; ComponentLink2URL: https://www.digikey.com/product-detail/en/nichicon/UPJ1C821MPD1TD/493-5032-3-ND/3130037; Tolerance: 20%; Voltage: 16V; Price: 0.2528; Device Package: Radial, Can, 10mm
footprint CAP AL TH D10 L5 H30
pins: 1, 2

## UPJ1E102MHD1TO
designator C?, comment 1000uF  (value not drawn)
CAP ALUM 1000UF 20% 25V RADIAL; Part Number: UPJ1E102MHD1TO; Manufacturer: Nichicon; TemperatureRange: -55C ~ 105C; Type: Polar; Ripple Current: 1.43A @ 120Hz; Impedance: 48 mOhm; Value: 1000uF; PartId: 23809; Supplier 1: Digi-Key; Supplier Part Number 1: 493-12146-3-ND; ComponentLink1Description: Datasheet; ComponentLink1URL: http://nichicon-us.com/english/products/pdfs/e-upj.pdf; ComponentLink2Description: Digi-Key Listing; ComponentLink2URL: https://www.digikey.com/product-detail/en/nichicon/UPJ1E102MHD1TO/493-12146-3-ND/4321289; Tolerance: 20%; Voltage: 25V; Price: 0.4042; Device Package: Radial, Can, 12.5mm
footprint CAP AL TH D12.5 L5 H27
pins: 1, 2

## UPJ1E122MHD1TO
designator C?, comment 1200uF  (value not drawn)
CAP ALUM 1200UF 20% 25V RADIAL; Part Number: UPJ1E122MHD1TO; Manufacturer: Nichicon; TemperatureRange: -55C ~ 105C; Type: Polar; Ripple Current: 1.55A @ 120Hz; Impedance: 43 mOhm; Value: 1200uF; PartId: 23802; Supplier 1: Digi-Key; Supplier Part Number 1: 493-12094-3-ND; ComponentLink1Description: Datasheet; ComponentLink1URL: http://nichicon-us.com/english/products/pdfs/e-upj.pdf; ComponentLink2Description: Digi-Key Listing; ComponentLink2URL: https://www.digikey.com/product-detail/en/nichicon/UPJ1E122MHD1TO/493-12094-3-ND/4321237; Tolerance: 20%; Voltage: 25V; Price: 0.356; Device Package: Radial, Can, 12.5mm
footprint CAP AL TH D12.5 L5 H27
pins: 1, 2

## UPJ1E152MHD
designator C?, comment 1500uF  (value not drawn)
CAP ALUM 1500UF 20% 25V RADIAL; Part Number: UPJ1E152MHD; Manufacturer: Nichicon; TemperatureRange: -55C ~ 105C; Type: Polar; Ripple Current: 1.78A @ 120Hz; Impedance: 35 mOhm; Value: 1500uF; PartId: 24264; Supplier 1: Digi-Key; Supplier Part Number 1: 493-5535-ND; ComponentLink1Description: Datasheet; ComponentLink1URL: http://nichicon-us.com/english/products/pdfs/e-upj.pdf; ComponentLink2Description: Digi-Key Listing; ComponentLink2URL: https://www.digikey.com/product-detail/en/nichicon/UPJ1E152MHD/493-5535-ND/2599129; Tolerance: 20%; Voltage: 25V; Price: 1.04; Device Package: Radial, Can, 12.5mm
footprint CAP AL TH D12.5 L5 H35.5
pins: 1, 2

## UPJ1E181MPD6TD
designator C?, comment 180uF  (value not drawn)
CAP ALUM 180UF 20% 25V RADIAL; Part Number: UPJ1E181MPD6TD; Manufacturer: Nichicon; TemperatureRange: -55C ~ 105C; Type: Polar; Ripple Current: 395mA @ 120Hz; Impedance: 240 mOhm; Value: 180uF; PartId: 24508; Supplier 1: Digi-Key; Supplier Part Number 1: 493-5034-3-ND; ComponentLink1Description: Datasheet; ComponentLink1URL: http://nichicon-us.com/english/products/pdfs/e-upj.pdf; ComponentLink2Description: Digi-Key Listing; ComponentLink2URL: https://www.digikey.com/product-detail/en/nichicon/UPJ1E181MPD6TD/493-5034-3-ND/3130039; Tolerance: 20%; Voltage: 25V; Price: 0.1239; Device Package: Radial, Can, 10mm
footprint CAP AL TH D10 L5 H14.5
pins: 1, 2

## UPJ1E221MPD6TD
designator C?, comment 220uF  (value not drawn)
CAP ALUM 220UF 20% 25V RADIAL; Part Number: UPJ1E221MPD6TD; Manufacturer: Nichicon; TemperatureRange: -55C ~ 105C; Type: Polar; Ripple Current: 435mA @ 120Hz; Impedance: 210 mOhm; Value: 220uF; PartId: 24512; Supplier 1: Digi-Key; Supplier Part Number 1: 493-11674-3-ND; ComponentLink1Description: Datasheet; ComponentLink1URL: http://nichicon-us.com/english/products/pdfs/e-upj.pdf; ComponentLink2Description: Digi-Key Listing; ComponentLink2URL: https://www.digikey.com/product-detail/en/nichicon/UPJ1E221MPD6TD/493-11674-3-ND/4320817; Tolerance: 20%; Voltage: 25V; Price: 0.1273; Device Package: Radial, Can, 10mm
footprint CAP AL TH D10 L5 H14.5
pins: 1, 2

## UPJ1E272MHD
designator C?, comment 2700uF  (value not drawn)
CAP ALUM 2700UF 20% 25V RADIAL; Part Number: UPJ1E272MHD; Manufacturer: Nichicon; TemperatureRange: -55C ~ 105C; Type: Polar; Ripple Current: 2.22A; Impedance: 27 mOhm; Value: 2700uF; PartId: 27052; Supplier 1: Digi-Key; Supplier Part Number 1: 493-11078-ND; ComponentLink1Description: Datasheet; ComponentLink1URL: http://nichicon-us.com/english/products/pdfs/e-upj.pdf; ComponentLink2Description: Digi-Key Listing; ComponentLink2URL: https://www.digikey.com/product-detail/en/nichicon/UPJ1E272MHD/493-11078-ND/2599141; Tolerance: 20%; Voltage: 25V; Price: 1.57; Device Package: Radial, Can, 16mm
footprint CAP AL TH D16 L7.5 H33.5
pins: 1, 2

## UPJ1E331MPD6TD
designator C?, comment 330uF  (value not drawn)
CAP ALUM 330UF 20% 25V RADIAL; Part Number: UPJ1E331MPD6TD; Manufacturer: Nichicon; TemperatureRange: -55C ~ 105C; Type: Polar; Ripple Current: 575mA @ 120Hz; Impedance: 150 mOhm; Value: 330uF; PartId: 25003; Supplier 1: Digi-Key; Supplier Part Number 1: 493-11747-3-ND; ComponentLink1Description: Datasheet; ComponentLink1URL: http://nichicon-us.com/english/products/pdfs/e-upj.pdf; ComponentLink2Description: Digi-Key Listing; ComponentLink2URL: https://www.digikey.com/product-detail/en/nichicon/UPJ1E331MPD6TD/493-11747-3-ND/4320890; Tolerance: 20%; Voltage: 25V; Price: 0.1498; Device Package: Radial, Can, 10mm
footprint CAP AL TH D10 L5 H17.5
pins: 1, 2

## UPJ1E332MHD
designator C?, comment 3300uF  (value not drawn)
CAP ALUM 3300UF 20% 25V RADIAL; Part Number: UPJ1E332MHD; Manufacturer: Nichicon; TemperatureRange: -55C ~ 105C; Type: Polar; Ripple Current: 2.41A @ 120Hz; Impedance: 25 mOhm; Value: 3300uF; PartId: 27343; Supplier 1: Digi-Key; Supplier Part Number 1: 493-5537-ND; ComponentLink1Description: Datasheet; ComponentLink1URL: http://nichicon-us.com/english/products/pdfs/e-upj.pdf; ComponentLink2Description: Digi-Key Listing; ComponentLink2URL: https://www.digikey.com/product-detail/en/nichicon/UPJ1E332MHD/493-5537-ND/2599146; Tolerance: 20%; Voltage: 25V; Price: 1.68; Device Package: Radial, Can, 16mm
footprint CAP AL TH D16 L7.5 H37
pins: 1, 2

## UPJ1E391MHD6TO
designator C?, comment 390uF  (value not drawn)
CAP ALUM 390UF 20% 25V RADIAL; Part Number: UPJ1E391MHD6TO; Manufacturer: Nichicon; TemperatureRange: -55C ~ 105C; Type: Polar; Ripple Current: 720mA @ 120Hz; Impedance: 130 mOhm; Value: 390uF; PartId: 22738; Supplier 1: Digi-Key; Supplier Part Number 1: 493-11991-1-ND; ComponentLink1Description: Datasheet; ComponentLink1URL: http://nichicon-us.com/english/products/pdfs/e-upj.pdf; ComponentLink2Description: Digi-Key Listing; ComponentLink2URL: https://www.digikey.com/product-detail/en/nichicon/UPJ1E391MHD6TO/493-11991-1-ND/4319441; Tolerance: 20%; Voltage: 25V; Price: 0; Device Package: Radial, Can, 12.5mm
footprint CAP AL TH D12.5 L5 H16.5
pins: 1, 2

## UPJ1E471MHD6TO
designator C?, comment 470uF  (value not drawn)
CAP ALUM 470UF 20% 25V RADIAL; Part Number: UPJ1E471MHD6TO; Manufacturer: Nichicon; TemperatureRange: -55C ~ 105C; Type: Polar; Ripple Current: 785mA @ 120Hz; Impedance: 110 mOhm; Value: 470uF; PartId: 22754; Supplier 1: Digi-Key; Supplier Part Number 1: 493-12029-1-ND; ComponentLink1Description: Datasheet; ComponentLink1URL: http://nichicon-us.com/english/products/pdfs/e-upj.pdf; ComponentLink2Description: Digi-Key Listing; ComponentLink2URL: https://www.digikey.com/product-detail/en/nichicon/UPJ1E471MHD6TO/493-12029-1-ND/4319443; Tolerance: 20%; Voltage: 25V; Price: 0; Device Package: Radial, Can, 12.5mm
footprint CAP AL TH D12.5 L5 H16.5
pins: 1, 2

## UPJ1E471MPD
designator C?, comment 470uF  (value not drawn)
CAP ALUM 470UF 20% 25V RADIAL; Part Number: UPJ1E471MPD; Manufacturer: Nichicon; TemperatureRange: -55C ~ 105C; Type: Polar; Ripple Current: 810mA @ 120Hz; Impedance: 100 mOhm; Value: 470uF; PartId: 25505; Supplier 1: Digi-Key; Supplier Part Number 1: UPJ1E471MPD-ND; ComponentLink1Description: Datasheet; ComponentLink1URL: http://nichicon-us.com/english/products/pdfs/e-upj.pdf; ComponentLink2Description: Digi-Key Listing; ComponentLink2URL: https://www.digikey.com/product-detail/en/nichicon/UPJ1E471MPD/UPJ1E471MPD-ND/2428098; Tolerance: 20%; Voltage: 25V; Price: 0.49; Device Package: Radial, Can, 10mm
footprint CAP AL TH D10 L5 H22
pins: 1, 2

## UPJ1E561MPD1TD
designator C?, comment 560uF  (value not drawn)
CAP ALUM 560UF 20% 25V RADIAL; Part Number: UPJ1E561MPD1TD; Manufacturer: Nichicon; TemperatureRange: -55C ~ 105C; Type: Polar; Ripple Current: 990mA @ 120Hz; Impedance: 84 mOhm; Value: 560uF; PartId: 26002; Supplier 1: Digi-Key; Supplier Part Number 1: 493-11947-3-ND; ComponentLink1Description: Datasheet; ComponentLink1URL: http://nichicon-us.com/english/products/pdfs/e-upj.pdf; ComponentLink2Description: Digi-Key Listing; ComponentLink2URL: https://www.digikey.com/product-detail/en/nichicon/UPJ1E561MPD1TD/493-11947-3-ND/4321090; Tolerance: 20%; Voltage: 25V; Price: 0.2218; Device Package: Radial, Can, 10mm
footprint CAP AL TH D10 L5 H30
pins: 1, 2

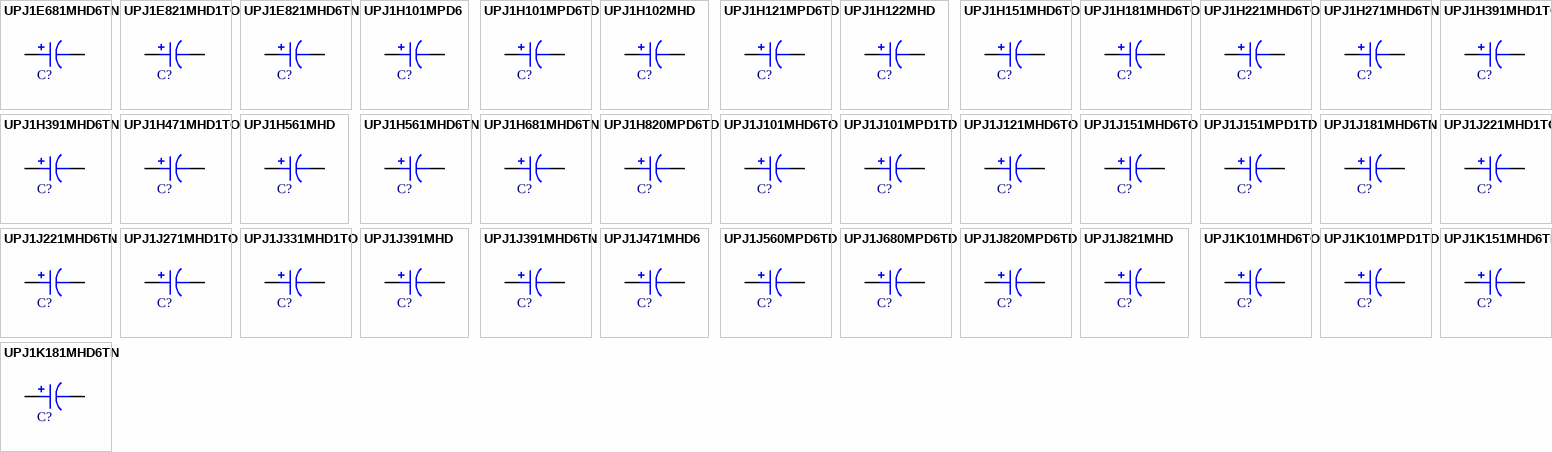
[diagram p82: symbols UPJ1E681MHD6TN to UPJ1K181MHD6TN]

## UPJ1E681MHD6TN
designator C?, comment 680uF  (value not drawn)
CAP ALUM 680UF 20% 25V RADIAL; Part Number: UPJ1E681MHD6TN; Manufacturer: Nichicon; TemperatureRange: -55C ~ 105C; Type: Polar; Ripple Current: 1.05A @ 120Hz; Impedance: 84 mOhm; Value: 680uF; PartId: 26239; Supplier 1: Digi-Key; Supplier Part Number 1: 493-5040-3-ND; ComponentLink1Description: Datasheet; ComponentLink1URL: http://nichicon-us.com/english/products/pdfs/e-upj.pdf; ComponentLink2Description: Digi-Key Listing; ComponentLink2URL: https://www.digikey.com/product-detail/en/nichicon/UPJ1E681MHD6TN/493-5040-3-ND/3130045; Tolerance: 20%; Voltage: 25V; Price: 0.4586; Device Package: Radial, Can, 16mm
footprint CAP AL TH D16 L7.5 H16.5
pins: 1, 2

## UPJ1E821MHD1TO
designator C?, comment 820uF  (value not drawn)
CAP ALUM 820UF 20% 25V RADIAL; Part Number: UPJ1E821MHD1TO; Manufacturer: Nichicon; TemperatureRange: -55C ~ 105C; Type: Polar; Ripple Current: 1.21A @ 120Hz; Impedance: 59 mOhm; Value: 820uF; PartId: 23228; Supplier 1: Digi-Key; Supplier Part Number 1: 493-11973-1-ND; ComponentLink1Description: Datasheet; ComponentLink1URL: http://nichicon-us.com/english/products/pdfs/e-upj.pdf; ComponentLink2Description: Digi-Key Listing; ComponentLink2URL: https://www.digikey.com/product-detail/en/nichicon/UPJ1E821MHD1TO/493-11973-1-ND/4319448; Tolerance: 20%; Voltage: 25V; Price: 0.66; Device Package: Radial, Can, 12.5mm
footprint CAP AL TH D12.5 L5 H22
pins: 1, 2

## UPJ1E821MHD6TN
designator C?, comment 820uF  (value not drawn)
CAP ALUM 820UF 20% 25V RADIAL; Part Number: UPJ1E821MHD6TN; Manufacturer: Nichicon; TemperatureRange: -55C ~ 105C; Type: Polar; Ripple Current: 1.13A @ 120Hz; Impedance: 79 mOhm; Value: 820uF; PartId: 26248; Supplier 1: Digi-Key; Supplier Part Number 1: 493-12176-3-ND; ComponentLink1Description: Datasheet; ComponentLink1URL: http://nichicon-us.com/english/products/pdfs/e-upj.pdf; ComponentLink2Description: Digi-Key Listing; ComponentLink2URL: https://www.digikey.com/product-detail/en/nichicon/UPJ1E821MHD6TN/493-12176-3-ND/4321319; Tolerance: 20%; Voltage: 25V; Price: 0.51; Device Package: Radial, Can, 16mm
footprint CAP AL TH D16 L7.5 H16.5
pins: 1, 2

## UPJ1H101MPD6
designator C?, comment 100uF  (value not drawn)
CAP ALUM 100UF 20% 50V RADIAL; Part Number: UPJ1H101MPD6; Manufacturer: Nichicon; TemperatureRange: -55C ~ 105C; Type: Polar; Ripple Current: 385mA @ 120Hz; Impedance: 210 mOhm; Value: 100uF; PartId: 25157; Supplier 1: Digi-Key; Supplier Part Number 1: 493-15636-ND; ComponentLink1Description: Datasheet; ComponentLink1URL: http://nichicon-us.com/english/products/pdfs/e-upj.pdf; ComponentLink2Description: Digi-Key Listing; ComponentLink2URL: https://www.digikey.com/product-detail/en/nichicon/UPJ1H101MPD6/493-15636-ND/2599168; Tolerance: 20%; Voltage: 50V; Price: 0.43; Device Package: Radial, Can, 10mm
footprint CAP AL TH D10 L5 H17.5
pins: 1, 2

## UPJ1H101MPD6TD
designator C?, comment 100uF  (value not drawn)
CAP ALUM 100UF 20% 50V RADIAL; Part Number: UPJ1H101MPD6TD; Manufacturer: Nichicon; TemperatureRange: -55C ~ 105C; Type: Polar; Ripple Current: 385mA @ 120Hz; Impedance: 210 mOhm; Value: 100uF; PartId: 25004; Supplier 1: Digi-Key; Supplier Part Number 1: 493-11804-3-ND; ComponentLink1Description: Datasheet; ComponentLink1URL: http://nichicon-us.com/english/products/pdfs/e-upj.pdf; ComponentLink2Description: Digi-Key Listing; ComponentLink2URL: https://www.digikey.com/product-detail/en/nichicon/UPJ1H101MPD6TD/493-11804-3-ND/4320947; Tolerance: 20%; Voltage: 50V; Price: 0.1502; Device Package: Radial, Can, 10mm
footprint CAP AL TH D10 L5 H17.5
pins: 1, 2

## UPJ1H102MHD
designator C?, comment 1000uF  (value not drawn)
CAP ALUM 1000UF 20% 50V RADIAL; Part Number: UPJ1H102MHD; Manufacturer: Nichicon; TemperatureRange: -55C ~ 105C; Type: Polar; Ripple Current: 1.83A; Impedance: 30 mOhm; Value: 1000uF; PartId: 26983; Supplier 1: Digi-Key; Supplier Part Number 1: 493-11082-ND; ComponentLink1Description: Datasheet; ComponentLink1URL: http://nichicon-us.com/english/products/pdfs/e-upj.pdf; ComponentLink2Description: Digi-Key Listing; ComponentLink2URL: https://www.digikey.com/product-detail/en/nichicon/UPJ1H102MHD/493-11082-ND/2599169; Tolerance: 20%; Voltage: 50V; Price: 1.2; Device Package: Radial, Can, 16mm
footprint CAP AL TH D16 L7.5 H33.5
pins: 1, 2

## UPJ1H121MPD6TD
designator C?, comment 120uF  (value not drawn)
CAP ALUM 120UF 20% 50V RADIAL; Part Number: UPJ1H121MPD6TD; Manufacturer: Nichicon; TemperatureRange: -55C ~ 105C; Type: Polar; Ripple Current: 435mA @ 120Hz; Impedance: 170 mOhm; Value: 120uF; PartId: 25015; Supplier 1: Digi-Key; Supplier Part Number 1: 493-5045-3-ND; ComponentLink1Description: Datasheet; ComponentLink1URL: http://nichicon-us.com/english/products/pdfs/e-upj.pdf; ComponentLink2Description: Digi-Key Listing; ComponentLink2URL: https://www.digikey.com/product-detail/en/nichicon/UPJ1H121MPD6TD/493-5045-3-ND/3130050; Tolerance: 20%; Voltage: 50V; Price: 0.1582; Device Package: Radial, Can, 10mm
footprint CAP AL TH D10 L5 H17.5
pins: 1, 2

## UPJ1H122MHD
designator C?, comment 1200uF  (value not drawn)
CAP ALUM 1200UF 20% 50V RADIAL; Part Number: UPJ1H122MHD; Manufacturer: Nichicon; TemperatureRange: -55C ~ 105C; Type: Polar; Ripple Current: 1.99A; Impedance: 28 mOhm; Value: 1200uF; PartId: 27326; Supplier 1: Digi-Key; Supplier Part Number 1: 493-11083-ND; ComponentLink1Description: Datasheet; ComponentLink1URL: http://nichicon-us.com/english/products/pdfs/e-upj.pdf; ComponentLink2Description: Digi-Key Listing; ComponentLink2URL: https://www.digikey.com/product-detail/en/nichicon/UPJ1H122MHD/493-11083-ND/2599174; Tolerance: 20%; Voltage: 50V; Price: 1.57; Device Package: Radial, Can, 16mm
footprint CAP AL TH D16 L7.5 H37
pins: 1, 2

## UPJ1H151MHD6TO
designator C?, comment 150uF  (value not drawn)
CAP ALUM 150UF 20% 50V RADIAL; Part Number: UPJ1H151MHD6TO; Manufacturer: Nichicon; TemperatureRange: -55C ~ 105C; Type: Polar; Ripple Current: 545mA @ 120Hz; Impedance: 140 mOhm; Value: 150uF; PartId: 22725; Supplier 1: Digi-Key; Supplier Part Number 1: 493-5046-1-ND; ComponentLink1Description: Datasheet; ComponentLink1URL: http://nichicon-us.com/english/products/pdfs/e-upj.pdf; ComponentLink2Description: Digi-Key Listing; ComponentLink2URL: https://www.digikey.com/product-detail/en/nichicon/UPJ1H151MHD6TO/493-5046-1-ND/3129383; Tolerance: 20%; Voltage: 50V; Price: 0; Device Package: Radial, Can, 12.5mm
footprint CAP AL TH D12.5 L5 H16.5
pins: 1, 2

## UPJ1H181MHD6TO
designator C?, comment 180uF  (value not drawn)
CAP ALUM 180UF 20% 50V RADIAL; Part Number: UPJ1H181MHD6TO; Manufacturer: Nichicon; TemperatureRange: -55C ~ 105C; Type: Polar; Ripple Current: 605mA @ 120Hz; Impedance: 120 mOhm; Value: 180uF; PartId: 22736; Supplier 1: Digi-Key; Supplier Part Number 1: 493-5048-1-ND; ComponentLink1Description: Datasheet; ComponentLink1URL: http://nichicon-us.com/english/products/pdfs/e-upj.pdf; ComponentLink2Description: Digi-Key Listing; ComponentLink2URL: https://www.digikey.com/product-detail/en/nichicon/UPJ1H181MHD6TO/493-5048-1-ND/3129385; Tolerance: 20%; Voltage: 50V; Price: 0; Device Package: Radial, Can, 12.5mm
footprint CAP AL TH D12.5 L5 H16.5
pins: 1, 2

## UPJ1H221MHD6TO
designator C?, comment 220uF  (value not drawn)
CAP ALUM 220UF 20% 50V RADIAL; Part Number: UPJ1H221MHD6TO; Manufacturer: Nichicon; TemperatureRange: -55C ~ 105C; Type: Polar; Ripple Current: 670mA @ 120Hz; Impedance: 100 mOhm; Value: 220uF; PartId: 22759; Supplier 1: Digi-Key; Supplier Part Number 1: 493-12039-1-ND; ComponentLink1Description: Datasheet; ComponentLink1URL: http://nichicon-us.com/english/products/pdfs/e-upj.pdf; ComponentLink2Description: Digi-Key Listing; ComponentLink2URL: https://www.digikey.com/product-detail/en/nichicon/UPJ1H221MHD6TO/493-12039-1-ND/4319457; Tolerance: 20%; Voltage: 50V; Price: 0; Device Package: Radial, Can, 12.5mm
footprint CAP AL TH D12.5 L5 H16.5
pins: 1, 2